# EAGLE library part PCA9306DCUT_PCA9306DCUT (library RTC-mezzanine)
Check prices <https://pricing.snapeda.com/parts/PCA9306DCUT/Texas%20Instruments/view-part?ref=eda>
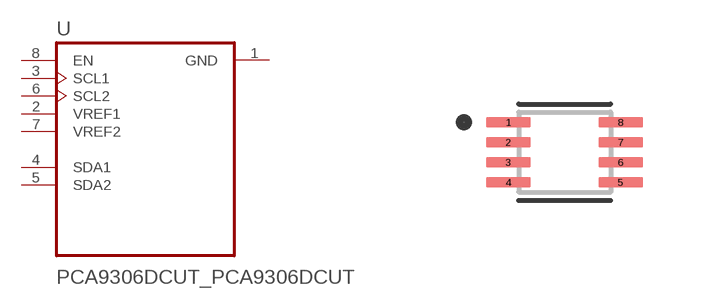
[diagram p3: symbol with the pads of PCA9306DCUT_SOP50P310X90-8N; footprint PCA9306DCUT_SOP50P310X90-8N]

Designator prefix U

## PCA9306DCUT_PCA9306DCUT (AVAILABILITY: Good; DESCRIPTION: 2-bit bidirectional I2C bus and SMBus voltage-level shifter 8-VSSOP -40 to 85; MF: Texas Instruments; MP: PCA9306DCUT; PACKAGE: VSSOP-8 Texas Instruments; PRICE: None; PURCHASE-URL: https://pricing.snapeda.com/search/part/PCA9306DCUT/?ref=eda)  [PCA9306DCUT_SOP50P310X90-8N]
1  GND  pwr
2  VREF1  in
3  SCL1  in
4  SDA1
5  SDA2
6  SCL2  in
7  VREF2  in
8  EN  in

## Footprint PCA9306DCUT_SOP50P310X90-8N (pad centres in mm)
smd 1.12 x 0.27: 1 -1.405,0.75; 2 -1.405,0.25; 3 -1.405,-0.25; 4 -1.405,-0.75; 5 1.405,-0.75; 6 1.405,-0.25; 7 1.405,0.25; 8 1.405,0.75